# Altium schematic symbol library cui-power.SchLib: 1 symbol
Pins are listed as number, name and electrical type; pins without a type are passive.

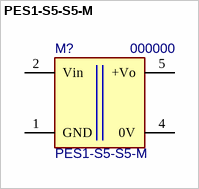
[diagram p0: symbol PES1-S5-S5-M]

## PES1-S5-S5-M
designator M?, comment 000000  value PES1-S5-S5-M
DC/DC Converter 1W 5V 200MA; MF: CUI; ExtraInfo: *; PN: 000000; Package: 8-SMD; MF PN: PES1-S5-S5-M
footprint PES1-M (SOP, 8-Leads, Body 12.9x8.5mm (max), Pitch 2.54mm, IPC Medium Density)
pins: 1 GND (power), 2 Vin (power), 4 0V (power), 5 +Vo (power), 8 NC (power) hidden